# Altium footprint library Misc.SMD.PcbLib: 88 footprints (part 6 of 6)
Each footprint in its own frame and in the unit in brackets; x right, y up, seen from the top. Pads: shape width x height; smd on the part's side, far side on the other; paste and mask are expansions set on the pad; w line width, h text height; cw(c..) or ccw(c..) is an arc to the next point about the centre after c.
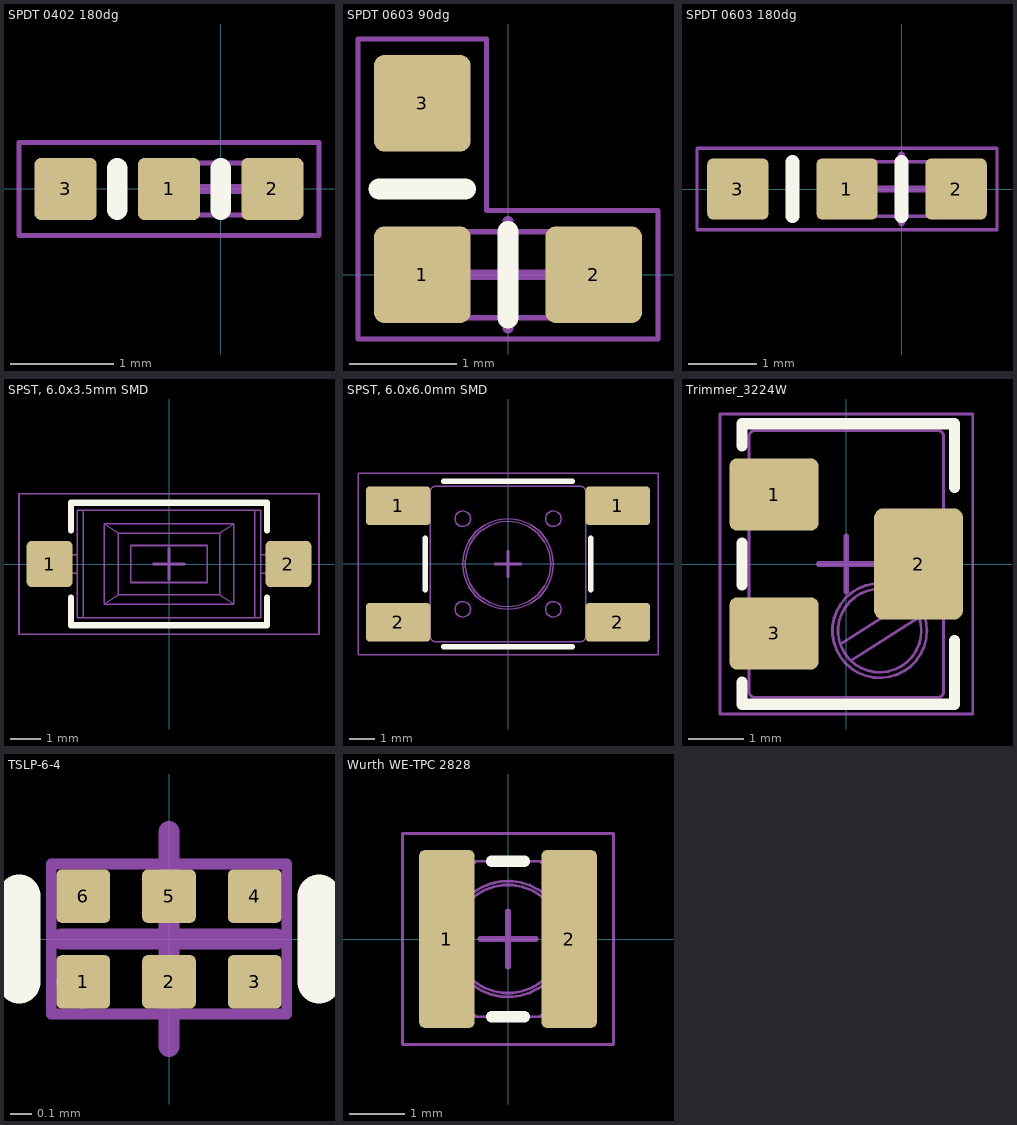
[diagram p5: the footprints below, top view; thin cyan lines are the x and y axes]

## SPDT 0402 180dg [mm] "0402 Strap Resistor, 180-Degree Angle"
height 0.5
pads (3):
  rrect20% 0.6x0.6 smd: 1(-0.5,0) 2(0.5,0) 3(-1.5,0)
Top Overlay:
  lines w0.2: -1,-0.2 -1,0.2 ; 0,-0.2 0,0.2
Mechanical 1:
  lines w0.05: -0.3,-0.25 -0.3,0.25 ; 0.3,-0.25 0.3,0.25 ; -0.5,-0.25 -0.5,0.25 0.5,0.25 0.5,-0.25 -0.5,-0.25
Mechanical 15:
  lines w0.05: -1.95,-0.45 0.95,-0.45 0.95,0.45 -1.95,0.45 -1.95,-0.45
  lines w0.1: -0.25,0 0.25,0 ; 0,-0.25 0,0.25
3D body "R_0402_1005Metric.step": height 0.35, standoff 0, extent -0.5,-0.25 0.5,0.25

## SPDT 0603 90dg [mm] "0603 Strap Resistor, 90-Degree Angle"
pads (3):
  rrect20% 0.9x0.9 smd: 1(-0.8,0) 2(0.8,0) 3(-0.8,1.6)
Top Overlay:
  lines w0.2: -1.2,0.8 -0.4,0.8 ; 0,-0.4 0,0.4
Mechanical 1:
  lines w0.05: -0.5,-0.4 -0.5,0.4 ; 0.5,-0.4 0.5,0.4 ; -0.8,-0.4 -0.8,0.4 0.8,0.4 0.8,-0.4 -0.8,-0.4
Mechanical 15:
  lines w0.05: -1.4,-0.6 -1.4,2.2 -0.2,2.2 -0.2,0.6 1.4,0.6 1.4,-0.6 -1.4,-0.6
  lines w0.1: -0.5,0 0.5,0 ; 0,-0.5 0,0.5
3D body "R_0603_1608Metric.step": height 0.45, standoff 0, extent -0.8,-0.4 0.8,0.4

## SPDT 0603 180dg [mm] "0603 Strap Resistor, 180-Degree Angle"
pads (3):
  rrect20% 0.9x0.9 smd: 1(-0.8,0) 2(0.8,0) 3(-2.4,0)
Top Overlay:
  lines w0.2: -1.6,-0.4 -1.6,0.4 ; 0,-0.4 0,0.4
Mechanical 1:
  lines w0.05: -0.5,-0.4 -0.5,0.4 ; 0.5,-0.4 0.5,0.4 ; -0.8,-0.4 -0.8,0.4 0.8,0.4 0.8,-0.4 -0.8,-0.4
Mechanical 15:
  lines w0.05: -3,-0.6 -3,0.6 1.4,0.6 1.4,-0.6 -3,-0.6
  lines w0.1: -0.5,0 0.5,0 ; 0,-0.5 0,0.5
3D body "R_0603_1608Metric.step": height 0.45, standoff 0, extent -0.8,-0.4 0.8,0.4

## SPST, 6.0x3.5mm SMD [mm] "SPST Tactile Switch, 6.0x3.5mm, SMD"
height 2.25
pads (2):
  rrect20% 1.5x1.5 smd: 1(-3.9,0) 2(3.9,0)
Top Overlay:
  lines w0.2: -3.2,-1.1 -3.2,-2 3.2,-2 3.2,-1.1 ; -3.2,1.1 -3.2,2 3.2,2 3.2,1.1
Mechanical 1:
  lines w0.05: -3,-0.3 -4,-0.3 -4,0.3 -3,0.3 ; -2.8,-1.75 -2.8,1.75 ; 2.8,-1.75 2.8,1.75 ; 3,-0.3 4,-0.3 4,0.3 3,0.3 ; -2.116,-1.32 -2.116,1.32 ; -2.116,-1.32 -2.091,-1.295 cw(c-2.078,-1.308) -2.088,-1.292 -1.655,-1.005 ; -2.116,-1.32 2.116,-1.32 ; -2.116,1.32 2.116,1.32 ; -2.116,1.32 -2.091,1.295 ccw(c-2.078,1.308) -2.088,1.292 -1.655,1.005 ; -1.655,-1.005 -1.655,1.005 ; -1.655,-1.005 1.655,-1.005 ; -1.655,1.005 1.655,1.005 ; 1.655,-1.005 2.088,-1.292 cw(c2.078,-1.308) 2.091,-1.295 2.116,-1.32 ; 1.655,-1.005 1.655,1.005 ; 1.655,1.005 2.088,1.292 ccw(c2.078,1.308) 2.091,1.295 2.116,1.32 ; 2.116,-1.32 2.116,1.32 ; -3,-1.75 3,-1.75 3,1.75 -3,1.75 -3,-1.75 ; -1.255,-0.605 1.255,-0.605 1.255,0.605 -1.255,0.605 -1.255,-0.605 ; -1.25,-0.6 1.25,-0.6 1.25,0.6 -1.25,0.6 -1.25,-0.6
Mechanical 15:
  lines w0.05: -4.9,-2.3 -4.9,2.3 4.9,2.3 4.9,-2.3 -4.9,-2.3
  lines w0.1: -0.5,0 0.5,0 ; 0,-0.5 0,0.5
3D body "SW_SPST_CK_RS282G05A3.step": height 2.5, standoff 0, extent -4,-1.75 4,1.75

## SPST, 6.0x6.0mm SMD [mm] "SPST Tactile Switch, 6.0x6.0mm, SMD"
height 7
pads (4):
  rrect20% 2.5x1.5 smd: 1(-4.25,2.25) 1(4.25,2.25) 2(-4.25,-2.25) 2(4.25,-2.25)
Top Overlay:
  lines w0.2: -3.2,-1 -3.2,1 ; -2.5,-3.2 2.5,-3.2 ; -2.5,3.2 2.5,3.2 ; 3.2,-1 3.2,1
Mechanical 1:
  circle w0.05: c0,0 r1.65
  circle w0.05: c0,0 r1.75
  circle w0.05: c1.75,1.75 r0.3
  circle w0.05: c-1.75,-1.75 r0.3
  circle w0.05: c1.75,-1.75 r0.3
  circle w0.05: c-1.75,1.75 r0.3
  lines w0.05: -3.537,-2.6 -3.537,-1.9 ; -3.537,1.9 -3.537,2.6 ; -3.5,-2.6 -3.5,-1.9 ; -3.5,1.9 -3.5,2.6 ; -3.418,-2.6 -3.418,-1.9 ; -3.418,1.9 -3.418,2.6 ; -3,-2.6 -4.5,-2.6 -4.5,-1.9 -3,-1.9 ; -3,1.9 -4.5,1.9 -4.5,2.6 -3,2.6 ; 3,-2.6 4.5,-2.6 4.5,-1.9 3,-1.9 ; 3,1.9 4.5,1.9 4.5,2.6 3,2.6 ; 3.418,-2.6 3.418,-1.9 ; 3.418,1.9 3.418,2.6 ; 3.5,-2.6 3.5,-1.9 ; 3.5,1.9 3.5,2.6 ; 3.537,-2.6 3.537,-1.9 ; 3.537,1.9 3.537,2.6 ; -3,-2.8 ccw(c-2.8,-2.8) -2.8,-3 2.8,-3 ccw(c2.8,-2.8) 3,-2.8 3,2.8 ccw(c2.8,2.8) 2.8,3 -2.8,3 ccw(c-2.8,2.8) -3,2.8 -3,-2.8
Mechanical 15:
  lines w0.05: -5.8,-3.5 -5.8,3.5 5.8,3.5 5.8,-3.5 -5.8,-3.5
  lines w0.1: -0.5,0 0.5,0 ; 0,-0.5 0,0.5
3D body "SW_SPST_PTS645.step": height 4.3, standoff 0, extent -4.5,-3 4.5,3

## Trimmer_3224W [mm] "Trimming Resistor 3224W"
height 5.3
pads (3):
  rrect20% 1.6x1.3 smd: 1(-1.3,1.25) 3(-1.3,-1.25)
  rrect20% 1.6x2 smd: 2(1.3,0)
Top Overlay:
  lines w0.2: -1.875,-2.125 -1.875,-2.525 1.95,-2.525 1.95,-1.375 ; -1.875,-0.375 -1.875,0.375 ; -1.875,2.125 -1.875,2.525 1.95,2.525 1.95,1.375
Mechanical 1:
  circle w0.05: c0.6,-1.2 r0.75
  circle w0.05: c0.6,-1.2 r0.85
  lines w0.05: -1.75,-1.65 -1.95,-1.65 -1.95,-0.85 -1.75,-0.85 ; -1.75,0.85 -1.95,0.85 -1.95,1.65 -1.75,1.65 ; -0.11,-1.443 1.12,-0.66 ; 0.08,-1.74 1.31,-0.957 ; 1.75,-0.65 1.95,-0.65 1.95,0.65 1.75,0.65 ; -1.75,-2.3 ccw(c-1.65,-2.3) -1.65,-2.4 1.65,-2.4 ccw(c1.65,-2.3) 1.75,-2.3 1.75,2.3 ccw(c1.65,2.3) 1.65,2.4 -1.65,2.4 ccw(c-1.65,2.3) -1.75,2.3 -1.75,-2.3
Mechanical 15:
  lines w0.05: -2.275,-2.7 -2.275,2.7 2.275,2.7 2.275,-2.7 -2.275,-2.7
  lines w0.1: -0.5,0 0.5,0 ; 0,-0.5 0,0.5
3D body "3224W.STEP": height 5.3, standoff 0, extent -1.9,-2.4 2,2.4

## TSLP-6-4 [mm] "TSLP-6-4 Package, 1.10x0.70mm, 6-Lead"
height 0.31
pads (6):
  rrect20% 0.25x0.25 smd: 1(-0.4,-0.2) 2(0,-0.2) 3(0.4,-0.2) 4(0.4,0.2) 5(0,0.2) 6(-0.4,0.2)
Top Overlay:
  lines w0.2: -0.7,-0.2 -0.7,0.2 ; 0.7,-0.2 0.7,0.2
Mechanical 1:
  circle w0.05: c-0.4,-0.2 r0.1
  lines w0.05: -0.55,-0.35 -0.55,0.35 0.55,0.35 0.55,-0.35 -0.55,-0.35
Mechanical 15:
  lines w0.1: -0.5,0 0.5,0 ; 0,-0.5 0,0.5
3D body "TSLP-6-4.STEP": height 0.31, standoff 0, extent -0.55,-0.35 0.55,0.35

## Wurth WE-TPC 2828 [mm] "Wurht WE-TPC 2828 Series Inductor, 2.80x2.80mm, 2-Leads"
height 2.8
pads (2):
  rrect20% 1x3.2 smd: 1(-1.1,0) 2(1.1,0)
Top Overlay:
  lines w0.2: -0.3,-1.4 0.3,-1.4 ; -0.3,1.4 0.3,1.4
Mechanical 1:
  circle w0.05: c0,0 r1.045
  lines w0.05: -1.4,-0.58 -0.58,-1.4 0.58,-1.4 1.4,-0.58 1.4,0.58 0.58,1.4 -0.58,1.4 -1.4,0.58 -1.4,-0.58 ; -0.97,-0.1 ccw(c0,0) 0.97,-0.1 0.775,-0.1 cw(c0.775,0) 0.775,0.1 0.97,0.1 ccw(c0,0) -0.97,0.1 -0.775,0.1 cw(c-0.775,0) -0.775,-0.1 -0.97,-0.1
Mechanical 15:
  lines w0.05: -1.9,-1.9 -1.9,1.9 1.9,1.9 1.9,-1.9 -1.9,-1.9
  lines w0.1: -0.5,0 0.5,0 ; 0,-0.5 0,0.5
3D body "WE-TPC_2828.STEP": height 2.8, standoff 0, extent -1.4,-1.4 1.4,1.4